# EAGLE library part MAX3232 (library deiring-components)
Multichannel RS232 Transceiver
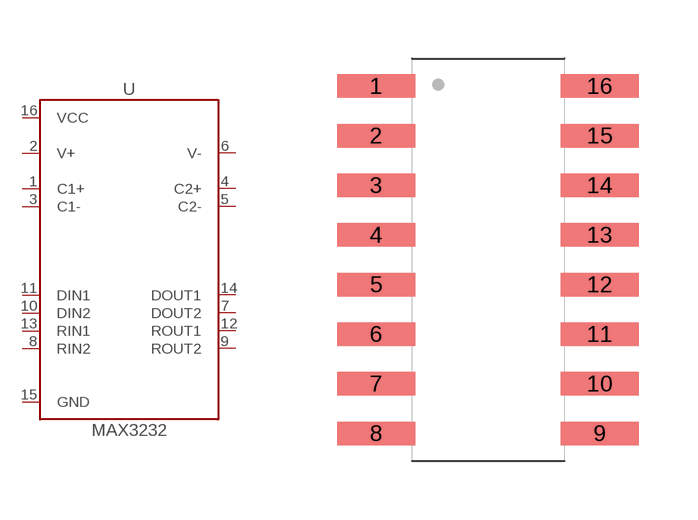
[diagram p7: symbol with the pads of SOIC-16; footprint SOIC-16]

Designator prefix U

## MAX3232-SOIC-16 (LCSC: C18261; MF: Texas Instruments; MPN: MAX3232IDR; VALUE: MAX3232)  [SOIC-16]
1  C1+
2  V+
3  C1-
4  C2+
5  C2-
6  V-
7  DOUT2
8  RIN2
9  ROUT2
10  DIN2
11  DIN1
12  ROUT1
13  RIN1
14  DOUT1
15  GND  pwr
16  VCC  pwr

## Footprint SOIC-16 (pad centres in mm)
smd 2 x 0.6: 1 -2.86,4.445; 2 -2.86,3.175; 3 -2.86,1.905; 4 -2.86,0.635; 5 -2.86,-0.635; 6 -2.86,-1.905; 7 -2.86,-3.175; 8 -2.86,-4.445; 9 2.86,-4.445; 10 2.86,-3.175; 11 2.86,-1.905; 12 2.86,-0.635; 13 2.86,0.635; 14 2.86,1.905; 15 2.86,3.175; 16 2.86,4.445